# Altium schematic symbol library NCP164CSN330T1G.SchLib: 1 symbol
Pins are listed as number, name and electrical type; pins without a type are passive.

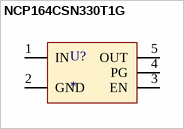
[diagram p0: symbol NCP164CSN330T1G]

## NCP164CSN330T1G
designator U?
footprint SOP95P275X110-5N
pins: 1 IN, 2 GND, 3 EN, 4 PG, 5 OUT